# Altium footprint library Resonator.pcblib: 4 footprints
Each footprint in its own frame and in the unit in brackets; x right, y up, seen from the top. Pads: shape width x height; smd on the part's side, far side on the other; paste and mask are expansions set on the pad; w line width, h text height; cw(c..) or ccw(c..) is an arc to the next point about the centre after c.
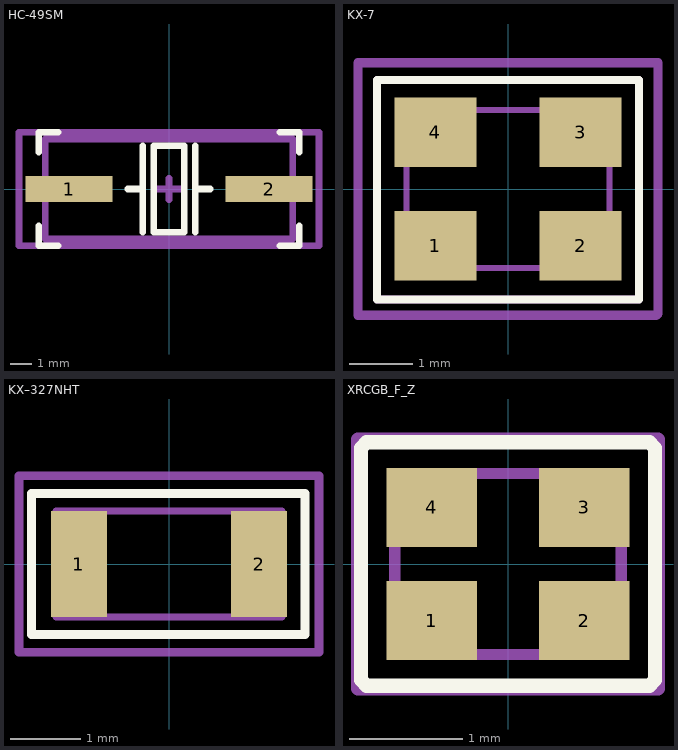
[diagram p0: the footprints below, top view; thin cyan lines are the x and y axes]

## HC-49SM [mm]
pads (2):
  rect 4x1.2 smd: 1(-4.6,0) 2(4.6,0)
Top Overlay:
  lines w0.3: -6,-1.7 -6,-2.6 -5.1,-2.6 ; -6,1.7 -6,2.6 -5.1,2.6 ; -1.9,0 -1.2,0 ; -1.2,-2 -1.2,2 ; 1.2,-2 1.2,2 ; 1.2,0 1.9,0 ; 5.1,-2.6 6,-2.6 6,-1.7 ; 5.1,2.6 6,2.6 6,1.7 ; -0.7,-2 0.7,-2 0.7,2 -0.7,2 -0.7,-2
Mechanical 13:
  lines w0.3: -5.7,-2.3 5.7,-2.3 5.7,2.3 -5.7,2.3 -5.7,-2.3
Mechanical 15:
  lines w0.3: -0.5,0 0.5,0 ; 0,-0.5 0,0.5 ; -6.9,-2.6 6.8,-2.6 6.9,-2.6 6.9,2.6 -6.9,2.6 -6.9,-2.6
3D body "User Library-Crystal HC49_US-SM.step": height 4.3, standoff 0, extent -6.4,-2.415 6.4,2.415

## KX-7 [mm] "smd 3.2x2.5 mm crystal resonator"
height 1.2
pads (4):
  rect 1.3x1.1 smd: 1(-1.15,-0.9) 2(1.15,-0.9) 3(1.15,0.9) 4(-1.15,0.9)
Top Overlay:
  lines w0.125: -2.075,-1.75 -2.075,1.725 2.075,1.725 2.075,-1.75 -2.075,-1.75
Mechanical 13:
  lines w0.1: -1.607,-1.25 -1.607,1.25 1.607,1.25 1.607,-1.25 -1.607,-1.25
Mechanical 15:
  lines w0.125: -2.075,-1.75 2.075,-1.75 2.075,1.725 -2.075,1.725 -2.075,-1.75
  lines w0.15: -2.375,-2 -2.375,2 2.375,2 2.375,1.875 2.375,-1.975 2.35,-2 2.25,-2 -2.375,-2
3D body "User Library-GeyerElectronics_KX7.SLDPRT": height 0.81, standoff 0, extent -1.607,-1.25 1.607,1.25

## KX–327NHT [mm] "QUARTZ CRYSTALS 32,768 kHz SMD-version"
height 0.8
pads (2):
  rect 0.8x1.5 smd: 1(-1.275,0) 2(1.275,0)
Top Overlay:
  lines w0.125: -1.95,-1 1.925,-1 1.925,1 -1.95,1 -1.95,-1
Mechanical 13:
  lines w0.1: -1.6,-0.75 -1.6,0.75 1.6,0.75 1.6,-0.75 -1.6,-0.75
Mechanical 15:
  lines w0.125: -2.125,-1.25 2.125,-1.25 2.125,1.25 -2.125,1.25 -2.125,-1.25
3D body "User Library-KX-327.SLDPRT": height 0.8, standoff 0, extent -1.6,-0.75 1.6,0.75

## XRCGB_F_Z [mm] "smd 2x1.6 mm crystal resonator"
height 0.65
pads (4):
  rect 0.8x0.7 smd: 1(-0.675,-0.5) 2(0.675,-0.5) 3(0.675,0.5) 4(-0.675,0.5)
Top Overlay:
  lines w0.125: -1.3,-1.025 -1.3,1.025 -1.25,1.075 1.25,1.075 1.3,1.025 1.3,-1.025 1.25,-1.075 -1.25,-1.075 -1.3,-1.025
Mechanical 13:
  lines w0.1: -1,-0.8 -1,0.8 1,0.8 1,-0.8 -1,-0.8
Mechanical 15:
  lines w0.125: -1.325,-1.1 1.325,-1.1 1.325,1.1 -1.325,1.1 -1.325,-1.1
3D body "User Library-XRCGB27M000F2P00R0.SLDPRT": height 0.65, standoff 0, extent -1,-0.8 1,0.8